# EAGLE library part TEMPLATE_USB (library voltera_community_lib)
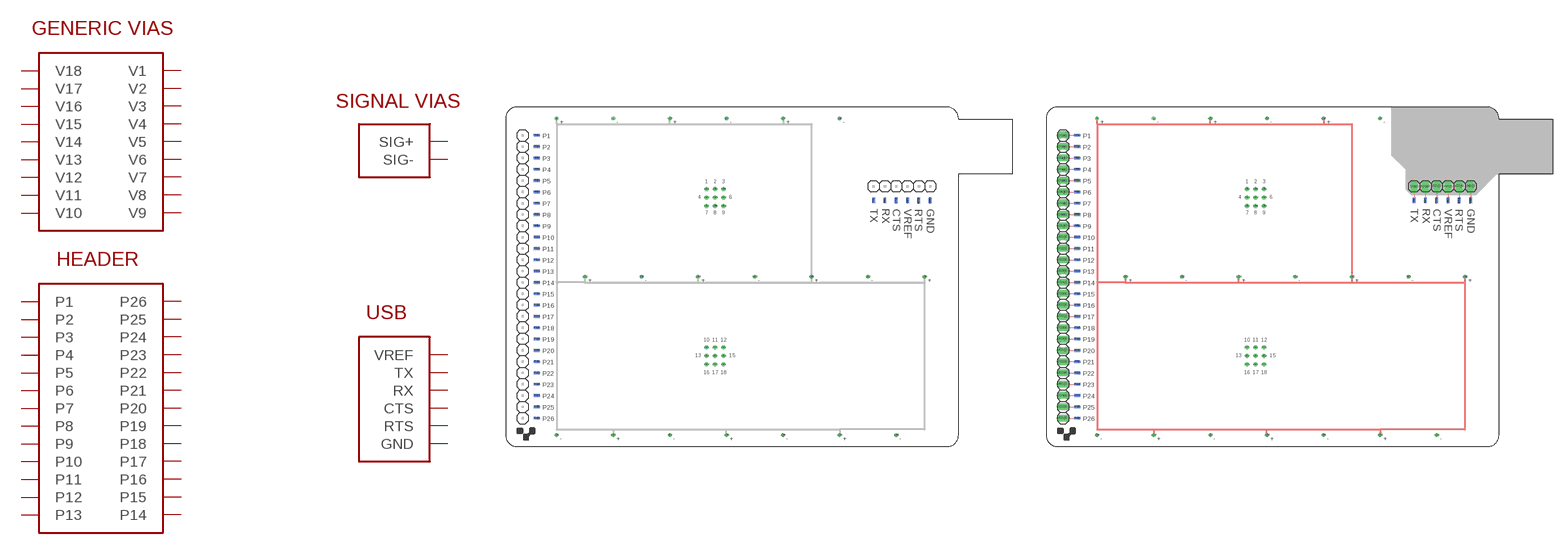
[diagram p4: symbol with the pads of USB_TEMPLATE; footprints USB_TEMPLATE, USB_TEMPLATE_RAW]

Designator prefix -

## TEMPLATE_USB_TEMPLATE  [USB_TEMPLATE]
+  SIG+
+@1  SIG+
+@2  SIG+
+@3  SIG+
+@4  SIG+
+@5  SIG+
+@6  SIG+
+@7  SIG+
+@8  SIG+
+@9  SIG+
-  SIG-
-@1  SIG-
-@2  SIG-
-@3  SIG-
-@4  SIG-
-@5  SIG-
-@6  SIG-
-@7  SIG-
-@8  SIG-
-@9  SIG-
CTS  CTS
CTS1  CTS
GND  GND
GND1  GND
P1  P1
P1@1  P1
P2  P2
P2@1  P2
P3  P3
P3@1  P3
P4  P4
P4@1  P4
P5  P5
P5@1  P5
P6  P6
P6@1  P6
P7  P7
P7@1  P7
P8  P8
P8@1  P8
P9  P9
P9@1  P9
P10  P10
P10@1  P10
P11  P11
P11@1  P11
P12  P12
P12@1  P12
P13  P13
P13@1  P13
P14  P14
P14@1  P14
P15  P15
P15@1  P15
P16  P16
P16@1  P16
P17  P17
P17@1  P17
P18  P18
P18@1  P18
P19  P19
P19@1  P19
P20  P20
P20@1  P20
P21  P21
P21@1  P21
P22  P22
P22@1  P22
P23  P23
P23@1  P23
P24  P24
P24@1  P24
P25  P25
P25@1  P25
P26  P26
P26@1  P26
RTS  RTS
RTS1  RTS
RX  RX
RX1  RX
TX  TX
TX1  TX
VIA1  V1
VIA2  V2
VIA3  V3
VIA4  V4
VIA5  V5
VIA6  V6
VIA7  V7
VIA8  V8
VIA9  V9
VIA10  V10
VIA11  V11
VIA12  V12
VIA13  V13
VIA14  V14
VIA15  V15
VIA16  V16
VIA17  V17
VIA18  V18
VREF  VREF
VREF1  VREF

## TEMPLATE_USBRAW  [USB_TEMPLATE_RAW]
+  SIG+
+@1  SIG+
+@2  SIG+
+@3  SIG+
+@4  SIG+
+@5  SIG+
+@6  SIG+
+@7  SIG+
+@8  SIG+
+@9  SIG+
-  SIG-
-@1  SIG-
-@2  SIG-
-@3  SIG-
-@4  SIG-
-@5  SIG-
-@6  SIG-
-@7  SIG-
-@8  SIG-
-@9  SIG-
CTS  CTS
CTS1  CTS
CTS@2  CTS
GND  GND
GND1  GND
GND@2  GND
P1  P1
P1@1  P1
P1@2  P1
P2  P2
P2@1  P2
P2@2  P2
P3  P3
P3@1  P3
P3@2  P3
P4  P4
P4@1  P4
P4@2  P4
P5  P5
P5@1  P5
P5@2  P5
P6  P6
P6@1  P6
P6@2  P6
P7  P7
P7@1  P7
P7@2  P7
P8  P8
P8@1  P8
P8@2  P8
P9  P9
P9@1  P9
P9@2  P9
P10  P10
P10@1  P10
P10@2  P10
P11  P11
P11@1  P11
P11@2  P11
P12  P12
P12@1  P12
P12@2  P12
P13  P13
P13@1  P13
P13@2  P13
P14  P14
P14@1  P14
P14@2  P14
P15  P15
P15@1  P15
P15@2  P15
P16  P16
P16@1  P16
P16@2  P16
P17  P17
P17@1  P17
P17@2  P17
P18  P18
P18@1  P18
P18@2  P18
P19  P19
P19@1  P19
P19@2  P19
P20  P20
P20@1  P20
P20@2  P20
P21  P21
P21@1  P21
P21@2  P21
P22  P22
P22@1  P22
P22@2  P22
P23  P23
P23@1  P23
P23@2  P23
P24  P24
P24@1  P24
P24@2  P24
P25  P25
P25@1  P25
P25@2  P25
P26  P26
P26@1  P26
P26@2  P26
RTS  RTS
RTS1  RTS
RTS@2  RTS
RX  RX
RX1  RX
RX@2  RX
TX  TX
TX1  TX
TX@2  TX
VIA1  V1
VIA2  V2
VIA3  V3
VIA4  V4
VIA5  V5
VIA6  V6
VIA7  V7
VIA8  V8
VIA9  V9
VIA10  V10
VIA11  V11
VIA12  V12
VIA13  V13
VIA14  V14
VIA15  V15
VIA16  V16
VIA17  V17
VIA18  V18
VREF  VREF
VREF1  VREF
VREF@2  VREF

## Footprint USB_TEMPLATE (pad centres in mm)
drill 0.3 pad 0.8: + 11.43,73.66; +@1 36.83,73.66; +@2 62.23,73.66; +@3 17.78,38.1; +@4 43.18,38.1; +@5 68.58,38.1; +@6 93.98,38.1; +@7 24.13,2.54; +@8 49.53,2.54; +@9 74.93,2.54; - 24.13,73.66; -@1 49.53,73.66; -@2 74.93,73.66; -@3 81.28,38.1; -@4 55.88,38.1; -@5 30.48,38.1; -@6 11.43,2.54; -@7 36.83,2.54; -@8 62.23,2.54; -@9 87.63,2.54
smd 0.635 x 1.27: CTS 87.63,55.245; GND 95.25,55.245; RTS 92.71,55.245; RX 85.09,55.245; TX 82.55,55.245; VREF 90.17,55.245
smd 0.635 x 1.27 bottom: CTS1 87.63,55.245; GND1 95.25,55.245; RTS1 92.71,55.245; RX1 85.09,55.245; TX1 82.55,55.245; VREF1 90.17,55.245
smd 1.27 x 0.635: P1 6.985,69.85; P2 6.985,67.31; P3 6.985,64.77; P4 6.985,62.23; P5 6.985,59.69; P6 6.985,57.15; P7 6.985,54.61; P8 6.985,52.07; P9 6.985,49.53; P10 6.985,46.99; P11 6.985,44.45; P12 6.985,41.91; P13 6.985,39.37; P14 6.985,36.83; P15 6.985,34.29; P16 6.985,31.75; P17 6.985,29.21; P18 6.985,26.67; P19 6.985,24.13; P20 6.985,21.59; P21 6.985,19.05; P22 6.985,16.51; P23 6.985,13.97; P24 6.985,11.43; P25 6.985,8.89; P26 6.985,6.35
smd 1.27 x 0.635 bottom: P1@1 6.985,69.85; P2@1 6.985,67.31; P3@1 6.985,64.77; P4@1 6.985,62.23; P5@1 6.985,59.69; P6@1 6.985,57.15; P7@1 6.985,54.61; P8@1 6.985,52.07; P9@1 6.985,49.53; P10@1 6.985,46.99; P11@1 6.985,44.45; P12@1 6.985,41.91; P13@1 6.985,39.37; P14@1 6.985,36.83; P15@1 6.985,34.29; P16@1 6.985,31.75; P17@1 6.985,29.21; P18@1 6.985,26.67; P19@1 6.985,24.13; P20@1 6.985,21.59; P21@1 6.985,19.05; P22@1 6.985,16.51; P23@1 6.985,13.97; P24@1 6.985,11.43; P25@1 6.985,8.89; P26@1 6.985,6.35
drill 0.3 pad 1: VIA1 45.085,57.785; VIA2 46.99,57.785; VIA3 48.895,57.785; VIA4 45.085,55.88; VIA5 46.99,55.88; VIA6 48.895,55.88; VIA7 45.085,53.975; VIA8 46.99,53.975; VIA9 48.895,53.975; VIA10 45.085,22.225; VIA11 46.99,22.225; VIA12 48.895,22.225; VIA13 45.085,20.32; VIA14 46.99,20.32; VIA15 48.895,20.32; VIA16 45.085,18.415; VIA17 46.99,18.415; VIA18 48.895,18.415

## Footprint USB_TEMPLATE_RAW (pad centres in mm)
drill 0.3 pad 0.8: + 11.43,73.66; +@1 36.83,73.66; +@2 62.23,73.66; +@3 17.78,38.1; +@4 43.18,38.1; +@5 68.58,38.1; +@6 93.98,38.1; +@7 24.13,2.54; +@8 49.53,2.54; +@9 74.93,2.54; - 24.13,73.66; -@1 49.53,73.66; -@2 74.93,73.66; -@3 81.28,38.1; -@4 55.88,38.1; -@5 30.48,38.1; -@6 11.43,2.54; -@7 36.83,2.54; -@8 62.23,2.54; -@9 87.63,2.54
smd 0.635 x 1.27: CTS 87.63,55.245; GND 95.25,55.245; RTS 92.71,55.245; RX 85.09,55.245; TX 82.55,55.245; VREF 90.17,55.245
smd 0.635 x 1.27 bottom: CTS1 87.63,55.245; GND1 95.25,55.245; RTS1 92.71,55.245; RX1 85.09,55.245; TX1 82.55,55.245; VREF1 90.17,55.245
drill 1.016 long: CTS@2 87.63,58.42; GND@2 95.25,58.42; P1@2 3.81,69.85; P2@2 3.81,67.31; P3@2 3.81,64.77; P4@2 3.81,62.23; P5@2 3.81,59.69; P6@2 3.81,57.15; P7@2 3.81,54.61; P8@2 3.81,52.07; P9@2 3.81,49.53; P10@2 3.81,46.99; P11@2 3.81,44.45; P12@2 3.81,41.91; P13@2 3.81,39.37; P14@2 3.81,36.83; P15@2 3.81,34.29; P16@2 3.81,31.75; P17@2 3.81,29.21; P18@2 3.81,26.67; P19@2 3.81,24.13; P20@2 3.81,21.59; P21@2 3.81,19.05; P22@2 3.81,16.51; P23@2 3.81,13.97; P24@2 3.81,11.43; P25@2 3.81,8.89; P26@2 3.81,6.35; RTS@2 92.71,58.42; RX@2 85.09,58.42; TX@2 82.55,58.42; VREF@2 90.17,58.42
smd 1.27 x 0.635: P1 6.985,69.85; P2 6.985,67.31; P3 6.985,64.77; P4 6.985,62.23; P5 6.985,59.69; P6 6.985,57.15; P7 6.985,54.61; P8 6.985,52.07; P9 6.985,49.53; P10 6.985,46.99; P11 6.985,44.45; P12 6.985,41.91; P13 6.985,39.37; P14 6.985,36.83; P15 6.985,34.29; P16 6.985,31.75; P17 6.985,29.21; P18 6.985,26.67; P19 6.985,24.13; P20 6.985,21.59; P21 6.985,19.05; P22 6.985,16.51; P23 6.985,13.97; P24 6.985,11.43; P25 6.985,8.89; P26 6.985,6.35
smd 1.27 x 0.635 bottom: P1@1 6.985,69.85; P2@1 6.985,67.31; P3@1 6.985,64.77; P4@1 6.985,62.23; P5@1 6.985,59.69; P6@1 6.985,57.15; P7@1 6.985,54.61; P8@1 6.985,52.07; P9@1 6.985,49.53; P10@1 6.985,46.99; P11@1 6.985,44.45; P12@1 6.985,41.91; P13@1 6.985,39.37; P14@1 6.985,36.83; P15@1 6.985,34.29; P16@1 6.985,31.75; P17@1 6.985,29.21; P18@1 6.985,26.67; P19@1 6.985,24.13; P20@1 6.985,21.59; P21@1 6.985,19.05; P22@1 6.985,16.51; P23@1 6.985,13.97; P24@1 6.985,11.43; P25@1 6.985,8.89; P26@1 6.985,6.35
drill 0.3 pad 1: VIA1 45.085,57.785; VIA2 46.99,57.785; VIA3 48.895,57.785; VIA4 45.085,55.88; VIA5 46.99,55.88; VIA6 48.895,55.88; VIA7 45.085,53.975; VIA8 46.99,53.975; VIA9 48.895,53.975; VIA10 45.085,22.225; VIA11 46.99,22.225; VIA12 48.895,22.225; VIA13 45.085,20.32; VIA14 46.99,20.32; VIA15 48.895,20.32; VIA16 45.085,18.415; VIA17 46.99,18.415; VIA18 48.895,18.415